# EAGLE library part BMS-7S (library agsys-psu)
7S Li-ion Battery Management System
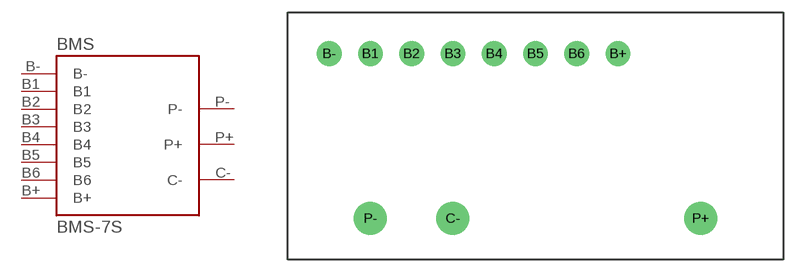
[diagram p2: symbol with the pads of BMS-7S; footprint BMS-7S]

Designator prefix BMS

## BMS-7S  [BMS-7S]
B1  B1
B2  B2
B3  B3
B4  B4
B5  B5
B6  B6
B+  B+  pwr
B-  B-  pwr
C-  C-  pwr
P+  P+  pwr
P-  P-  pwr

## Footprint BMS-7S (pad centres in mm)
7S Li-ion BMS Module
drill 1.5 pad 3: B1 -20,10; B2 -15,10; B3 -10,10; B4 -5,10; B5 0,10; B6 5,10; B+ 10,10; B- -25,10
drill 2 pad 4: C- -10,-10; P+ 20,-10; P- -20,-10